# Altium schematic symbol library lib.SchLib: 12 symbols
Pins are listed as number, name and electrical type; pins without a type are passive.

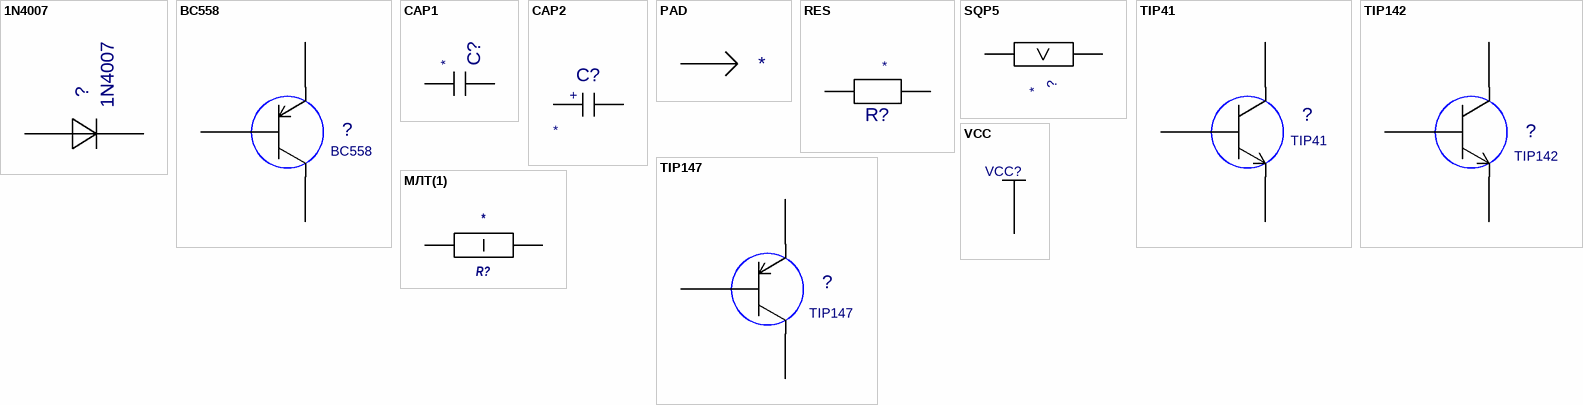
[diagram p0: symbols 1N4007 to МЛТ(1)]

## 1N4007
designator ?
Value: *
footprint 1N4007
pins: 1 K, 2 A

## BC558
designator ?
Value: *
footprint BC558
pins: 1, 2, 3

## CAP1
designator C?  (value not drawn)
Value: *
footprint CAP1
pins: 1, 2

## CAP2
designator C?  (value not drawn)
Value: *
footprint CAP2
pins: 1, 2
text: +

## PAD
designator ?  (value not drawn)
Value: *
footprint PAD
pins: 1 A1

## RES
designator R?  (value not drawn)
Value: *
footprint RES
pins: 1, 2

## SQP5
designator ?  (value not drawn)
Value: *
footprint SQP5
pins: 1, 2

## TIP41
designator ?
Value: *
footprint TIP41
pins: 1, 2, 3

## TIP142
designator ?
Value: *
footprint TIP142
pins: 1, 2, 3

## TIP147
designator ?
Value: *
footprint TIP147
pins: 1, 2, 3

## VCC
designator VCC?  (value not drawn)
Value: *
pins: 1 (power)

## МЛТ(1)
designator R?  (value not drawn)
Value: *
footprint МЛТ(1)
pins: 1, 2